# EAGLE library part 24LC21A-I/SN (library Microchip_By_element14_Batch_1)
1K 2.5V Dual Mode I2C Serial EEPROM
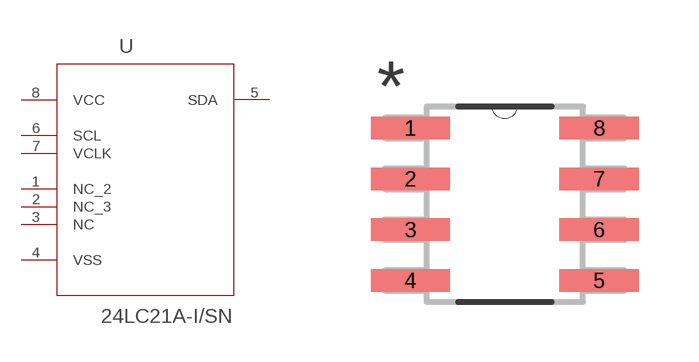
[diagram p70: symbol with the pads of SOIC127P600X175-8N; footprint SOIC127P600X175-8N]

Designator prefix -

## 24LC21A-I/SN (DESCRIPTION: 1K 2.5V Dual Mode I2C Serial EEPROM; MPN: 24LC21A-I/SN; OC_FARNELL: -; OC_NEWARK: 92C7161; PACKAGE: SOIC-8; SUPPLIER: Microchip)  [SOIC127P600X175-8N]
1  NC_2  nc
2  NC_3  nc
3  NC  nc
4  VSS  pwr
5  SDA
6  SCL  in
7  VCLK  in
8  VCC  pwr

## Footprint SOIC127P600X175-8N (pad centres in mm)
smd 1.981 x 0.559: 1 -2.362,1.905; 2 -2.362,0.635; 3 -2.362,-0.635; 4 -2.362,-1.905; 5 2.362,-1.905; 6 2.362,-0.635; 7 2.362,0.635; 8 2.362,1.905